# Altium footprint library QFN50P400X400X100-25N.PcbLib: 1 footprints
Each footprint in its own frame and in the unit in brackets; x right, y up, seen from the top. Pads: shape width x height; smd on the part's side, far side on the other; paste and mask are expansions set on the pad; w line width, h text height; cw(c..) or ccw(c..) is an arc to the next point about the centre after c.
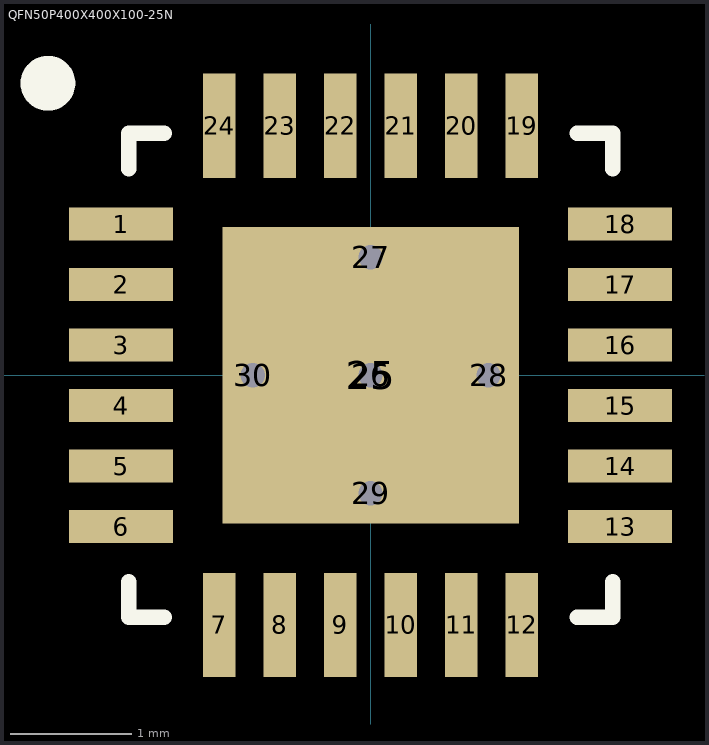
[diagram p0: the footprint, top view; thin cyan lines are the x and y axes]

## QFN50P400X400X100-25N [mm]
pads (30):
  rect 0.86x0.27 smd: 1(-2.062,1.25) 2(-2.062,0.75) 3(-2.062,0.25) 4(-2.062,-0.25) 5(-2.062,-0.75) 6(-2.062,-1.25) 13(2.062,-1.25) 14(2.062,-0.75) 15(2.062,-0.25) 16(2.062,0.25) 17(2.062,0.75) 18(2.062,1.25)
  rect 0.27x0.86 smd: 7(-1.25,-2.062) 8(-0.75,-2.062) 9(-0.25,-2.062) 10(0.25,-2.062) 11(0.75,-2.062) 12(1.25,-2.062) 19(1.25,2.062) 20(0.75,2.062) 21(0.25,2.062) 22(-0.25,2.062) 23(-0.75,2.062) 24(-1.25,2.062)
  rect 2.45x2.45 smd paste-2: 25(0,0)
  round 0.4 hole 0.2: 26(0,0) 27(0,0.975) 28(0.975,0) 29(0,-0.975) 30(-0.975,0)
Top Overlay:
  circle w0.254: c-2.667,2.413 r0.1
  lines w0.127: -2,-1.705 -2,-2 -1.705,-2 ; -2,1.705 -2,2 -1.705,2 ; 1.705,-2 2,-2 2,-1.705 ; 1.705,2 2,2 2,1.705
Top Paste:
  region: -0.1,-1.18 -1.18,-1.18 -1.18,-0.1 -0.1,-0.1
  region: 1.18,-1.18 0.1,-1.18 0.1,-0.1 1.18,-0.1
  region: 1.18,0.1 0.1,0.1 0.1,1.18 1.18,1.18
  region: -0.1,0.1 -1.18,0.1 -1.18,1.18 -0.1,1.18
3D body "TPS65130RGER.step": height 1, standoff 0, extent -2,-2 2,2